# Altium schematic symbol library STM32G0.SCHLIB: 18 symbols
Pins are listed as number, name and electrical type; pins without a type are passive.

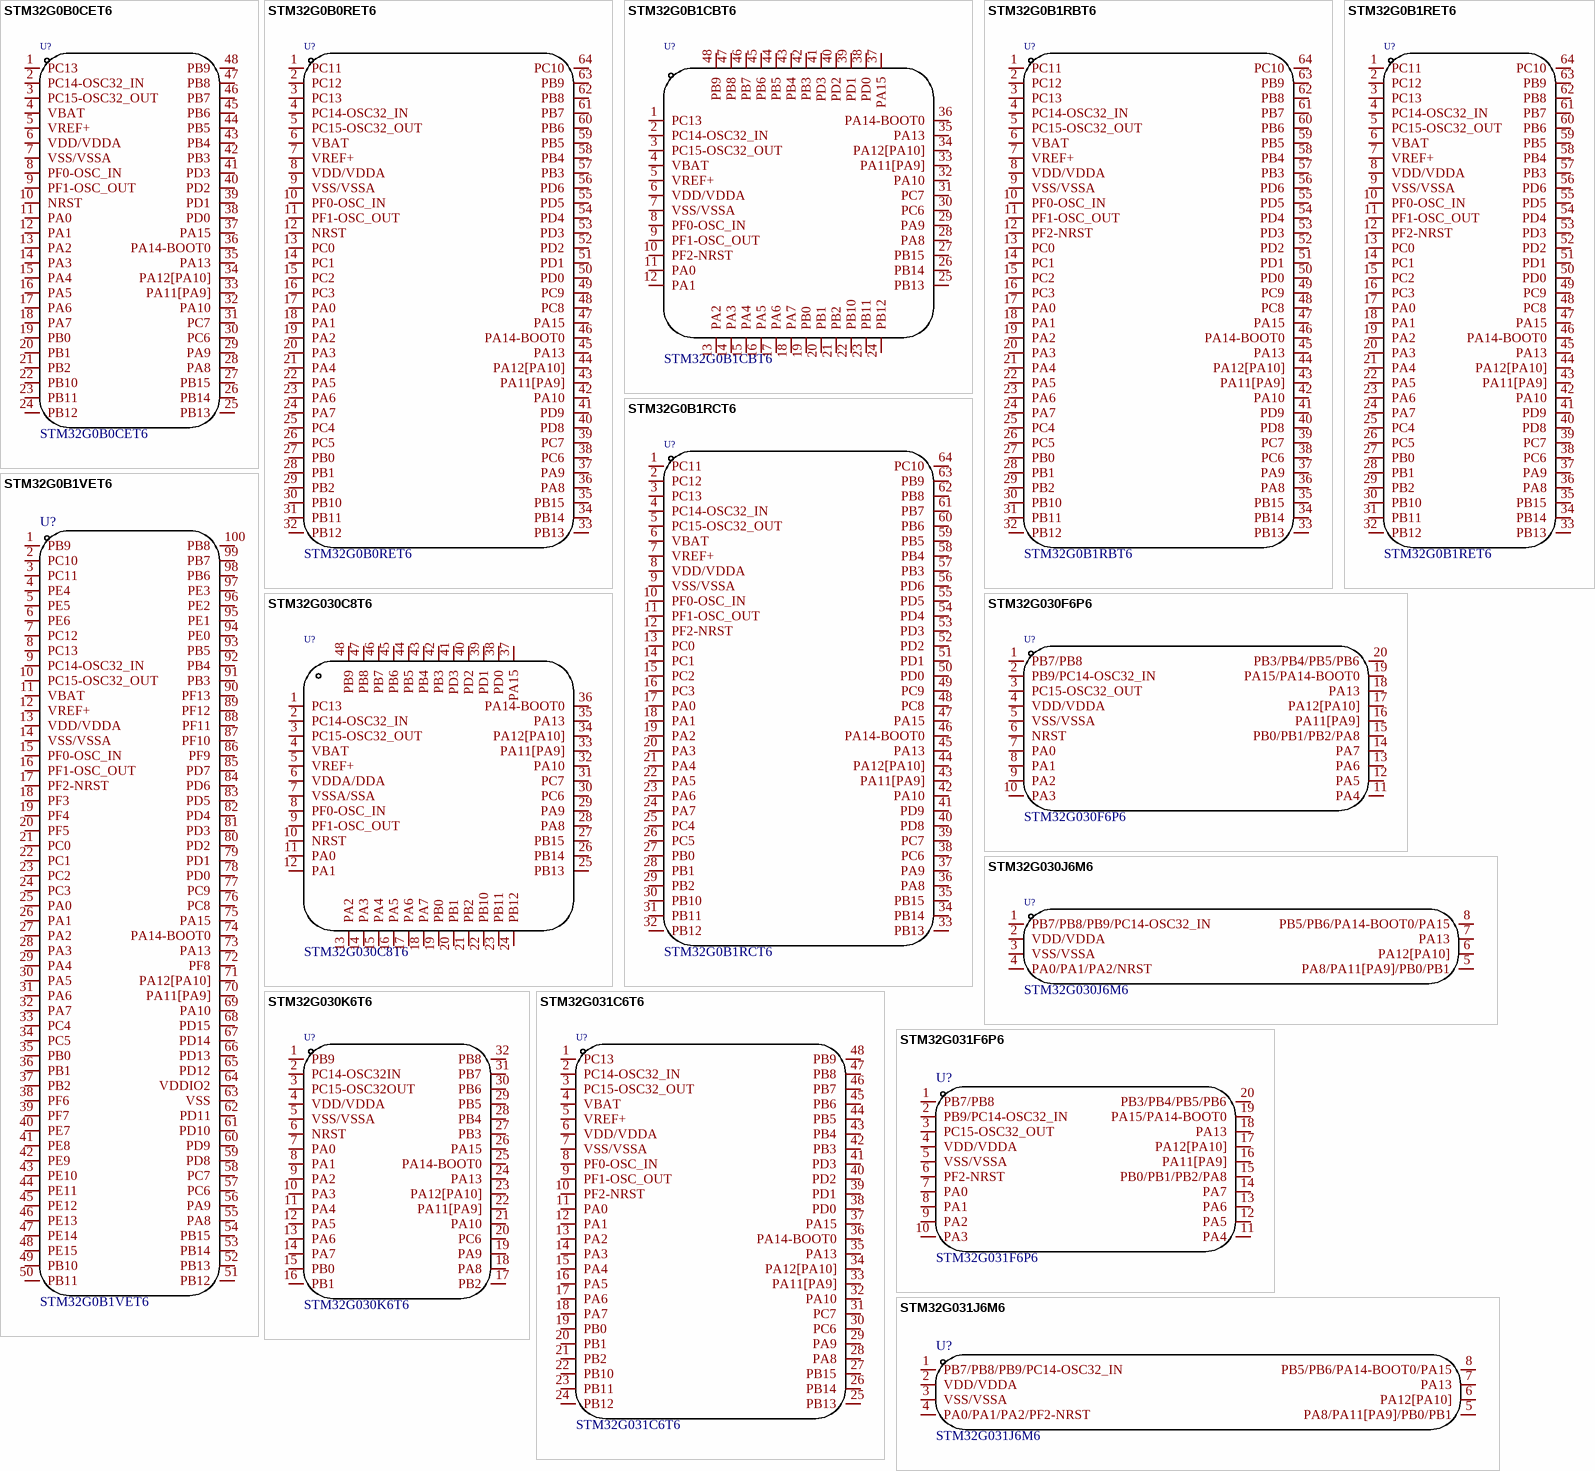
[diagram p0: symbols STM32G0B0CET6 to STM32G031J6M6]

## STM32G0B0CET6
designator U?
CPU Core:ARM-MSeries CPU Maximum Speed:64MHz Operating Voltage Range:2V~3.6V Operating Voltage Range:2V~3.6V Program Storage Size:512KB GPIO Ports Number:43 ADC (Bit):12bit Universal Serial Bus:有 Watchdog:有 Infrared Data Association:有 Low-Voltage Detect:有; Manufacturer: ST(意法半导体); Add into BOM: yes; CPU Maximum Speed: 64MHz; Program Storage Size: 512KB; GPIO Ports Number: 43; ADC (Bit): 12bit; Universal Serial Bus: 有; Symbol: STM32G0B0CET6; Device: STM32G0B0CET6; LCSC Part Name: STM32G0B0CET6; Supplier Part: C2826978; Manufacturer Part: STM32G0B0CET6; Supplier Footprint: LQFP-48(7x7); JLCPCB Part Class: Extended Part; Datasheet: https://atta.szlcsc.com/upload/public/pdf/source/20210707/C2826978_AA9CEF82AF6B521A912A336EFDF6C4C8.pdf; Supplier: LCSC; Convert to PCB: yes; CPU Core: ARM-MSeries; Operating Voltage Range: 2V~3.6V; Watchdog: 有; Infrared Data Association: 有; Low-Voltage Detect: 有; Direct Memory Access: 有; Operating Temperature Range: -40℃~+85℃; Name: STM32G0B0CET6
footprint LQFP-48_L7.0-W7.0-P0.50-LS9.0-BL
3D model LQFP-48_L7.0-W7.0-H1.4-LS9.0-P0.50
pins: 1 PC13, 2 PC14-OSC32_IN, 3 PC15-OSC32_OUT, 4 VBAT, 5 VREF+, 6 VDD/VDDA, 7 VSS/VSSA, 8 PF0-OSC_IN, 9 PF1-OSC_OUT, 10 NRST, 11 PA0, 12 PA1, 13 PA2, 14 PA3, 15 PA4, 16 PA5, 17 PA6, 18 PA7, 19 PB0, 20 PB1, 21 PB2, 22 PB10, 23 PB11, 24 PB12, 25 PB13, 26 PB14, 27 PB15, 28 PA8, 29 PA9, 30 PC6, 31 PC7, 32 PA10, 33 PA11[PA9], 34 PA12[PA10], 35 PA13, 36 PA14-BOOT0, 37 PA15, 38 PD0, 39 PD1, 40 PD2, 41 PD3, 42 PB3, 43 PB4, 44 PB5, 45 PB6, 46 PB7, 47 PB8, 48 PB9

## STM32G0B0RET6
designator U?
CPU Core:ARM-MSeries CPU Maximum Speed:64MHz Operating Voltage Range:2V~3.6V Operating Voltage Range:2V~3.6V Program Storage Size:512KB GPIO Ports Number:59 ADC (Bit):12bit Universal Serial Bus:有 Watchdog:有 Infrared Data Association:有 Low-Voltage Detect:有; Manufacturer: ST(意法半导体); Add into BOM: yes; CPU Maximum Speed: 64MHz; Program Storage Size: 512KB; GPIO Ports Number: 59; ADC (Bit): 12bit; Universal Serial Bus: 有; Name: STM32G0B0RET6; Symbol: STM32G0B0RET6; Device: STM32G0B0RET6; LCSC Part Name: STM32G0B0RET6; Supplier Part: C3230954; Manufacturer Part: STM32G0B0RET6; Supplier Footprint: LQFP-64(10x10); JLCPCB Part Class: Extended Part; Datasheet: https://atta.szlcsc.com/upload/public/pdf/source/20221107/A61E058B5B08CCB3DBE2C9E58729ACAF.pdf; Supplier: LCSC; Convert to PCB: yes; CPU Core: ARM-MSeries; Operating Voltage Range: 2V~3.6V; Watchdog: 有; Infrared Data Association: 有; Low-Voltage Detect: 有; Direct Memory Access: 有; Operating Temperature Range: -40℃~+85℃
footprint LQFP-64_L10.0-W10.0-P0.50-LS12.0-BL
3D model LQFP-64_L10.0-W10.0-H1.4-LS12.0-P0.50
pins: 1 PC11, 2 PC12, 3 PC13, 4 PC14-OSC32_IN, 5 PC15-OSC32_OUT, 6 VBAT, 7 VREF+, 8 VDD/VDDA, 9 VSS/VSSA, 10 PF0-OSC_IN, 11 PF1-OSC_OUT, 12 NRST, 13 PC0, 14 PC1, 15 PC2, 16 PC3, 17 PA0, 18 PA1, 19 PA2, 20 PA3, 21 PA4, 22 PA5, 23 PA6, 24 PA7, 25 PC4, 26 PC5, 27 PB0, 28 PB1, 29 PB2, 30 PB10, 31 PB11, 32 PB12, 33 PB13, 34 PB14, 35 PB15, 36 PA8, 37 PA9, 38 PC6, 39 PC7, 40 PD8, 41 PD9, 42 PA10, 43 PA11[PA9], 44 PA12[PA10], 45 PA13, 46 PA14-BOOT0, 47 PA15, 48 PC8, 49 PC9, 50 PD0, 51 PD1, 52 PD2, 53 PD3, 54 PD4, 55 PD5, 56 PD6, 57 PB3, 58 PB4, 59 PB5, 60 PB6, 61 PB7, 62 PB8, 63 PB9, 64 PC10

## STM32G0B1CBT6
designator U?
CPU Core:ARM-MSeries CPU Maximum Speed:- Program Storage Size:- Program Memory Type:- GPIO Ports Number:- Operating Voltage Range:- Operating Voltage Range:- RAM Size:- EEPROM:- ADC (Bit):- DAC (Bit):- PWM (Bit):- Universal Serial Bus:- Internal Comparato; Manufacturer: ST(意法半导体); Add into BOM: yes; Name: STM32G0B1CBT6; Symbol: STM32G0B1CBT6; Device: STM32G0B1CBT6; LCSC Part Name: STM32G0B1CBT6; Supplier Part: C2847904; Manufacturer Part: STM32G0B1CBT6; Supplier Footprint: LQFP-48(7x7); JLCPCB Part Class: Extended Part; Datasheet: https://atta.szlcsc.com/upload/public/pdf/source/20210707/C2829307_30DFBC3FA791244241E64BDE5F705BBC.pdf; Supplier: LCSC; Convert to PCB: yes; CPU Core: ARM-MSeries; CPU Maximum Speed: -; Program Storage Size: -; Program Memory Type: -; GPIO Ports Number: -; Operating Voltage Range: -; RAM Size: -; EEPROM: -; ADC (Bit): -; DAC (Bit): -; PWM (Bit): -; Universal Serial Bus: -; Internal Comparator: -; communication protocol: -; Watchdog: -; Real-Time Clock: -; Infrared Data Association: -; Low-Voltage Detect: -; CCP Capture/Compare: -; Secure Digital Input and Output: -; Direct Memory Access: -; Internal Oscillator: -
footprint LQFP-48_L7.0-W7.0-P0.50-LS9.0-BL
3D model LQFP-48_L7.0-W7.0-H1.4-LS9.0-P0.50
pins: 1 PC13, 2 PC14-OSC32_IN, 3 PC15-OSC32_OUT, 4 VBAT, 5 VREF+, 6 VDD/VDDA, 7 VSS/VSSA, 8 PF0-OSC_IN, 9 PF1-OSC_OUT, 10 PF2-NRST, 11 PA0, 12 PA1, 13 PA2, 14 PA3, 15 PA4, 16 PA5, 17 PA6, 18 PA7, 19 PB0, 20 PB1, 21 PB2, 22 PB10, 23 PB11, 24 PB12, 25 PB13, 26 PB14, 27 PB15, 28 PA8, 29 PA9, 30 PC6, 31 PC7, 32 PA10, 33 PA11[PA9], 34 PA12[PA10], 35 PA13, 36 PA14-BOOT0, 37 PA15, 38 PD0, 39 PD1, 40 PD2, 41 PD3, 42 PB3, 43 PB4, 44 PB5, 45 PB6, 46 PB7, 47 PB8, 48 PB9

## STM32G0B1RBT6
designator U?
Manufacturer: ST(意法半导体); Add into BOM: yes; Name: STM32G0B1RBT6; Symbol: STM32G0B1RBT6; Device: STM32G0B1RBT6; LCSC Part Name: STM32G0B1RBT6; Supplier Part: C5143679; Manufacturer Part: STM32G0B1RBT6; Supplier Footprint: LQFP-64(10x10); JLCPCB Part Class: Extended Part; Datasheet: https://atta.szlcsc.com/upload/public/pdf/source/20220824/5AEF072D9605B2DA7E37B612C22A2EC2.pdf; Supplier: LCSC; Convert to PCB: yes
footprint LQFP-64_L10.0-W10.0-P0.50-LS12.0-BL
3D model LQFP-64_L10.0-W10.0-H1.4-LS12.0-P0.50
pins: 1 PC11, 2 PC12, 3 PC13, 4 PC14-OSC32_IN, 5 PC15-OSC32_OUT, 6 VBAT, 7 VREF+, 8 VDD/VDDA, 9 VSS/VSSA, 10 PF0-OSC_IN, 11 PF1-OSC_OUT, 12 PF2-NRST, 13 PC0, 14 PC1, 15 PC2, 16 PC3, 17 PA0, 18 PA1, 19 PA2, 20 PA3, 21 PA4, 22 PA5, 23 PA6, 24 PA7, 25 PC4, 26 PC5, 27 PB0, 28 PB1, 29 PB2, 30 PB10, 31 PB11, 32 PB12, 33 PB13, 34 PB14, 35 PB15, 36 PA8, 37 PA9, 38 PC6, 39 PC7, 40 PD8, 41 PD9, 42 PA10, 43 PA11[PA9], 44 PA12[PA10], 45 PA13, 46 PA14-BOOT0, 47 PA15, 48 PC8, 49 PC9, 50 PD0, 51 PD1, 52 PD2, 53 PD3, 54 PD4, 55 PD5, 56 PD6, 57 PB3, 58 PB4, 59 PB5, 60 PB6, 61 PB7, 62 PB8, 63 PB9, 64 PC10

## STM32G0B1RCT6
designator U?
Manufacturer: ST(意法半导体); Add into BOM: yes; Name: STM32G0B1RCT6; Symbol: STM32G0B1RCT6; Device: STM32G0B1RCT6; LCSC Part Name: STM32G0B1RCT6; Supplier Part: C3034735; Manufacturer Part: STM32G0B1RCT6; Supplier Footprint: LQFP-64(10x10); JLCPCB Part Class: Extended Part; Datasheet: https://atta.szlcsc.com/upload/public/pdf/source/20220610/AE51C760F8E597F032654332049C8E3A.pdf; Supplier: LCSC; Convert to PCB: yes
footprint LQFP-64_L10.0-W10.0-P0.50-LS12.0-BL
3D model LQFP-64_L10.0-W10.0-H1.4-LS12.0-P0.50
pins: 1 PC11, 2 PC12, 3 PC13, 4 PC14-OSC32_IN, 5 PC15-OSC32_OUT, 6 VBAT, 7 VREF+, 8 VDD/VDDA, 9 VSS/VSSA, 10 PF0-OSC_IN, 11 PF1-OSC_OUT, 12 PF2-NRST, 13 PC0, 14 PC1, 15 PC2, 16 PC3, 17 PA0, 18 PA1, 19 PA2, 20 PA3, 21 PA4, 22 PA5, 23 PA6, 24 PA7, 25 PC4, 26 PC5, 27 PB0, 28 PB1, 29 PB2, 30 PB10, 31 PB11, 32 PB12, 33 PB13, 34 PB14, 35 PB15, 36 PA8, 37 PA9, 38 PC6, 39 PC7, 40 PD8, 41 PD9, 42 PA10, 43 PA11[PA9], 44 PA12[PA10], 45 PA13, 46 PA14-BOOT0, 47 PA15, 48 PC8, 49 PC9, 50 PD0, 51 PD1, 52 PD2, 53 PD3, 54 PD4, 55 PD5, 56 PD6, 57 PB3, 58 PB4, 59 PB5, 60 PB6, 61 PB7, 62 PB8, 63 PB9, 64 PC10

## STM32G0B1RET6
designator U?
Manufacturer: ST(意法半导体); Add into BOM: yes; Name: STM32G0B1RET6; Symbol: STM32G0B1RET6; Device: STM32G0B1RET6; LCSC Part Name: STM32G0B1RET6; Supplier Part: C2829307; Manufacturer Part: STM32G0B1RET6; Supplier Footprint: LQFP-64(10x10); JLCPCB Part Class: Extended Part; Datasheet: https://atta.szlcsc.com/upload/public/pdf/source/20210707/C2829307_30DFBC3FA791244241E64BDE5F705BBC.pdf; Supplier: LCSC; Convert to PCB: yes
footprint LQFP-64_L10.0-W10.0-P0.50-LS12.0-BL
3D model LQFP-64_L10.0-W10.0-H1.4-LS12.0-P0.50
pins: 1 PC11, 2 PC12, 3 PC13, 4 PC14-OSC32_IN, 5 PC15-OSC32_OUT, 6 VBAT, 7 VREF+, 8 VDD/VDDA, 9 VSS/VSSA, 10 PF0-OSC_IN, 11 PF1-OSC_OUT, 12 PF2-NRST, 13 PC0, 14 PC1, 15 PC2, 16 PC3, 17 PA0, 18 PA1, 19 PA2, 20 PA3, 21 PA4, 22 PA5, 23 PA6, 24 PA7, 25 PC4, 26 PC5, 27 PB0, 28 PB1, 29 PB2, 30 PB10, 31 PB11, 32 PB12, 33 PB13, 34 PB14, 35 PB15, 36 PA8, 37 PA9, 38 PC6, 39 PC7, 40 PD8, 41 PD9, 42 PA10, 43 PA11[PA9], 44 PA12[PA10], 45 PA13, 46 PA14-BOOT0, 47 PA15, 48 PC8, 49 PC9, 50 PD0, 51 PD1, 52 PD2, 53 PD3, 54 PD4, 55 PD5, 56 PD6, 57 PB3, 58 PB4, 59 PB5, 60 PB6, 61 PB7, 62 PB8, 63 PB9, 64 PC10

## STM32G0B1VET6
designator U?
CPU Core:ARM-MSeries CPU Maximum Speed:64MHz Operating Voltage Range:1.7V~3.6V Operating Voltage Range:1.7V~3.6V Program Storage Size:512KB GPIO Ports Number:94 ADC (Bit):12bit DAC (Bit):12bit Watchdog:有 Low-Voltage Detect:有 Direct Memory Access:有 Operati; Manufacturer: ST(意法半导体); Add into BOM: yes; CPU Maximum Speed: 64MHz; Program Storage Size: 512KB; GPIO Ports Number: 94; ADC (Bit): 12bit; Watchdog: 有; Name: STM32G0B1VET6; Symbol: STM32G0B1VET6; Device: STM32G0B1VET6; LCSC Part Name: ARM-M系列 64MHz; Supplier Part: C2829192; Manufacturer Part: STM32G0B1VET6; Supplier Footprint: LQFP-100(14x14); JLCPCB Part Class: Extended Part; Datasheet: https://atta.szlcsc.com/upload/public/pdf/source/20220803/4EF33D9BD61B6282E4BF5A60724D5CD0.pdf; Supplier: LCSC; Convert to PCB: yes; CPU Core: ARM-MSeries; Operating Voltage Range: 1.7V~3.6V; DAC (Bit): 12bit; Low-Voltage Detect: 有; Direct Memory Access: 有; Operating Temperature Range: -40℃~+85℃
footprint LQFP-100_L14.0-W14.0-P0.50-LS16.0-BL
3D model LQFP-100_L14.0-W14.0-H1.4-LS16.0-P0.50
pins: 1 PB9, 2 PC10, 3 PC11, 4 PE4, 5 PE5, 6 PE6, 7 PC12, 8 PC13, 9 PC14-OSC32_IN, 10 PC15-OSC32_OUT, 11 VBAT, 12 VREF+, 13 VDD/VDDA, 14 VSS/VSSA, 15 PF0-OSC_IN, 16 PF1-OSC_OUT, 17 PF2-NRST, 18 PF3, 19 PF4, 20 PF5, 21 PC0, 22 PC1, 23 PC2, 24 PC3, 25 PA0, 26 PA1, 27 PA2, 28 PA3, 29 PA4, 30 PA5, 31 PA6, 32 PA7, 33 PC4, 34 PC5, 35 PB0, 36 PB1, 37 PB2, 38 PF6, 39 PF7, 40 PE7, 41 PE8, 42 PE9, 43 PE10, 44 PE11, 45 PE12, 46 PE13, 47 PE14, 48 PE15, 49 PB10, 50 PB11, 51 PB12, 52 PB13, 53 PB14, 54 PB15, 55 PA8, 56 PA9, 57 PC6, 58 PC7, 59 PD8, 60 PD9, 61 PD10, 62 PD11, 63 VSS, 64 VDDIO2, 65 PD12, 66 PD13, 67 PD14, 68 PD15, 69 PA10, 70 PA11[PA9], 71 PA12[PA10], 72 PF8, 73 PA13, 74 PA14-BOOT0, 75 PA15, 76 PC8, 77 PC9, 78 PD0, 79 PD1, 80 PD2, 81 PD3, 82 PD4, 83 PD5, 84 PD6, 85 PD7, 86 PF9, 87 PF10, 88 PF11, 89 PF12, 90 PF13, 91 PB3, 92 PB4, 93 PB5, 94 PE0, 95 PE1, 96 PE2, 97 PE3, 98 PB6, 99 PB7, 100 PB8

## STM32G030C8T6
designator U?
CPU Core:ARM Cortex-M0 CPU Maximum Speed:64MHz Operating Voltage Range:2V~3.6V Operating Voltage Range:2V~3.6V Program Storage Size:64KB Program Memory Type:FLASH RAM Size:8KB EEPROM:- GPIO Ports Number:44 ADC (Bit):12bit DAC (Bit):- PWM (Bit):- Universal; Manufacturer: ST(意法半导体); Add into BOM: yes; CPU Maximum Speed: 64MHz; Program Storage Size: 64KB; Program Memory Type: FLASH; RAM Size: 8KB; GPIO Ports Number: 44; ADC (Bit): 12bit; Peripheral/Function: DMA；PWM; Internal Oscillator: 有; Name: STM32G030C8T6; Symbol: STM32G030C8T6; Device: STM32G030C8T6; LCSC Part Name: STM32G030C8T6; Supplier Part: C529329; Manufacturer Part: STM32G030C8T6; Supplier Footprint: LQFP-48(7x7); JLCPCB Part Class: Extended Part; Datasheet: https://atta.szlcsc.com/upload/public/pdf/source/20200511/C529329_A1CB615556C746C4EA827FCAD1461480.pdf; Supplier: LCSC; Convert to PCB: yes; CPU Core: ARM Cortex-M0; Operating Voltage Range: 2V~3.6V; EEPROM: -; DAC (Bit): -; PWM (Bit): -; Universal Serial Bus: -; Internal Comparator: -; communication protocol: -; Watchdog: -; Real-Time Clock: -; Infrared Data Association: -; Low-Voltage Detect: -; CCP Capture/Compare: -; Secure Digital Input and Output: -; Direct Memory Access: -; Operating Temperature Range: -40℃~+85℃
footprint LQFP-48_L7.0-W7.0-P0.50-LS9.0-BL
3D model LQFP-48_L7.0-W7.0-H1.4-LS9.0-P0.50
pins: 1 PC13, 2 PC14-OSC32_IN, 3 PC15-OSC32_OUT, 4 VBAT, 5 VREF+, 6 VDDA/DDA, 7 VSSA/SSA, 8 PF0-OSC_IN, 9 PF1-OSC_OUT, 10 NRST, 11 PA0, 12 PA1, 13 PA2, 14 PA3, 15 PA4, 16 PA5, 17 PA6, 18 PA7, 19 PB0, 20 PB1, 21 PB2, 22 PB10, 23 PB11, 24 PB12, 25 PB13, 26 PB14, 27 PB15, 28 PA8, 29 PA9, 30 PC6, 31 PC7, 32 PA10, 33 PA11[PA9], 34 PA12[PA10], 35 PA13, 36 PA14-BOOT0, 37 PA15, 38 PD0, 39 PD1, 40 PD2, 41 PD3, 42 PB3, 43 PB4, 44 PB5, 45 PB6, 46 PB7, 47 PB8, 48 PB9

## STM32G030F6P6
designator U?
CPU Core:ARM Cortex-M0 CPU Maximum Speed:64MHz Operating Voltage Range:2V~3.6V Operating Voltage Range:2V~3.6V Program Storage Size:32KB Program Memory Type:FLASH RAM Size:8KB EEPROM:- GPIO Ports Number:18 ADC (Bit):12bit DAC (Bit):- PWM (Bit):- Universal; Manufacturer: ST(意法半导体); Add into BOM: yes; CPU Maximum Speed: 64MHz; Program Storage Size: 32KB; Program Memory Type: FLASH; RAM Size: 8KB; GPIO Ports Number: 18; ADC (Bit): 12bit; Peripheral/Function: DMA；WDT；WDT; Internal Oscillator: 有; Symbol: STM32G030F6P6; Device: STM32G030F6P6; LCSC Part Name: STM32G030F6P6; Supplier Part: C724040; Manufacturer Part: STM32G030F6P6; Supplier Footprint: TSSOP-20; JLCPCB Part Class: Extended Part; Datasheet: https://atta.szlcsc.com/upload/public/pdf/source/20200511/C529329_A1CB615556C746C4EA827FCAD1461480.pdf; Supplier: LCSC; Convert to PCB: yes; CPU Core: ARM Cortex-M0; Operating Voltage Range: 2V~3.6V; EEPROM: -; DAC (Bit): -; PWM (Bit): -; Universal Serial Bus: -; Internal Comparator: -; communication protocol: -; Watchdog: -; Real-Time Clock: -; Infrared Data Association: -; Low-Voltage Detect: -; CCP Capture/Compare: -; Secure Digital Input and Output: -; Direct Memory Access: -; Operating Temperature Range: -40℃~+85℃; Name: STM32G030F6P6
footprint TSSOP-20_L6.5-W4.4-P0.65-LS6.4-BL
3D model TSSOP-20_L6.5-W4.4-H1.0-LS6.4-P0.65
pins: 1 PB7/PB8, 2 PB9/PC14-OSC32_IN, 3 PC15-OSC32_OUT, 4 VDD/VDDA, 5 VSS/VSSA, 6 NRST, 7 PA0, 8 PA1, 9 PA2, 10 PA3, 11 PA4, 12 PA5, 13 PA6, 14 PA7, 15 PB0/PB1/PB2/PA8, 16 PA11[PA9], 17 PA12[PA10], 18 PA13, 19 PA15/PA14-BOOT0, 20 PB3/PB4/PB5/PB6

## STM32G030J6M6
designator U?
Manufacturer: ST(意法半导体); Add into BOM: yes; Name: STM32G030J6M6; Symbol: STM32G030J6M6; Device: STM32G030J6M6; LCSC Part Name: STM32G030J6M6; Supplier Part: C724041; Manufacturer Part: STM32G030J6M6; Supplier Footprint: SOP-8; JLCPCB Part Class: Extended Part; Datasheet: https://atta.szlcsc.com/upload/public/pdf/source/20200511/C529329_A1CB615556C746C4EA827FCAD1461480.pdf; Supplier: LCSC; Convert to PCB: yes
footprint SOP-8_L5.0-W4.0-P1.27-LS6.0-BL
3D model SOP-8_L5.0-W4.0-H1.8-LS6.2-P1.27
pins: 1 PB7/PB8/PB9/PC14-OSC32_IN, 2 VDD/VDDA, 3 VSS/VSSA, 4 PA0/PA1/PA2/NRST, 5 PA8/PA11[PA9]/PB0/PB1, 6 PA12[PA10], 7 PA13, 8 PB5/PB6/PA14-BOOT0/PA15

## STM32G030K6T6
designator U?
CPU Core:ARM Cortex-M0 CPU Maximum Speed:64MHz Operating Voltage Range:2V~3.6V Operating Voltage Range:2V~3.6V Program Storage Size:32KB Program Memory Type:FLASH RAM Size:8KB EEPROM:- GPIO Ports Number:30 ADC (Bit):12bit DAC (Bit):- PWM (Bit):- Universal; Manufacturer: ST(意法半导体); Add into BOM: yes; CPU Maximum Speed: 64MHz; Program Storage Size: 32KB; Program Memory Type: FLASH; RAM Size: 8KB; GPIO Ports Number: 30; ADC (Bit): 12bit; Peripheral/Function: DMA；PWM; Internal Oscillator: 有; Name: STM32G030K6T6; Symbol: STM32G030K6T6; Device: STM32G030K6T6; LCSC Part Name: STM32G030K6T6; Supplier Part: C529331; Manufacturer Part: STM32G030K6T6; Supplier Footprint: LQFP-32(7x7); JLCPCB Part Class: Extended Part; Datasheet: https://atta.szlcsc.com/upload/public/pdf/source/20200511/C529329_A1CB615556C746C4EA827FCAD1461480.pdf; Supplier: LCSC; Convert to PCB: yes; CPU Core: ARM Cortex-M0; Operating Voltage Range: 2V~3.6V; EEPROM: -; DAC (Bit): -; PWM (Bit): -; Universal Serial Bus: -; Internal Comparator: -; communication protocol: -; Watchdog: -; Real-Time Clock: -; Infrared Data Association: -; Low-Voltage Detect: -; CCP Capture/Compare: -; Secure Digital Input and Output: -; Direct Memory Access: -; Operating Temperature Range: -40℃~+85℃
footprint LQFP-32_L7.0-W7.0-P0.80-LS9.0-BL
3D model LQFP-32_L7.0-W7.0-H1.4-LS9.0-P0.80
pins: 1 PB9, 2 PC14-OSC32IN, 3 PC15-OSC32OUT, 4 VDD/VDDA, 5 VSS/VSSA, 6 NRST, 7 PA0, 8 PA1, 9 PA2, 10 PA3, 11 PA4, 12 PA5, 13 PA6, 14 PA7, 15 PB0, 16 PB1, 17 PB2, 18 PA8, 19 PA9, 20 PC6, 21 PA10, 22 PA11[PA9], 23 PA12[PA10], 24 PA13, 25 PA14-BOOT0, 26 PA15, 27 PB3, 28 PB4, 29 PB5, 30 PB6, 31 PB7, 32 PB8

## STM32G031C6T6
designator U?
CPU Core:ARM Cortex-M0 CPU Maximum Speed:64MHz Operating Voltage Range:1.7V~3.6V Operating Voltage Range:1.7V~3.6V Program Storage Size:32KB Program Memory Type:FLASH RAM Size:8KB EEPROM:- GPIO Ports Number:44 ADC (Bit):12bit DAC (Bit):- PWM (Bit):- Unive; Manufacturer: ST(意法半导体); Add into BOM: yes; CPU Maximum Speed: 64MHz; Program Storage Size: 32KB; Program Memory Type: FLASH; RAM Size: 8KB; GPIO Ports Number: 44; ADC (Bit): 12bit; Peripheral/Function: PWM；PWM; Internal Oscillator: 有; Name: STM32G031C6T6; Symbol: STM32G031C6T6; Device: STM32G031C6T6; LCSC Part Name: STM32G031C6T6; Supplier Part: C432204; Manufacturer Part: STM32G031C6T6; Supplier Footprint: LQFP-48(7x7); JLCPCB Part Class: Extended Part; Datasheet: https://atta.szlcsc.com/upload/public/pdf/source/20190927/C432211_623EEFA1D407096BEEBF7364175DF17E.pdf; Supplier: LCSC; Convert to PCB: yes; CPU Core: ARM Cortex-M0; Operating Voltage Range: 1.7V~3.6V; EEPROM: -; DAC (Bit): -; PWM (Bit): -; Universal Serial Bus: -; Internal Comparator: -; communication protocol: -; Watchdog: -; Real-Time Clock: -; Infrared Data Association: -; Low-Voltage Detect: -; CCP Capture/Compare: -; Secure Digital Input and Output: -; Direct Memory Access: -; Operating Temperature Range: -40℃~+85℃
footprint LQFP-48_L7.0-W7.0-P0.50-LS9.0-BL
3D model LQFP-48_L7.0-W7.0-H1.4-LS9.0-P0.50
pins: 1 PC13, 2 PC14-OSC32_IN, 3 PC15-OSC32_OUT, 4 VBAT, 5 VREF+, 6 VDD/VDDA, 7 VSS/VSSA, 8 PF0-OSC_IN, 9 PF1-OSC_OUT, 10 PF2-NRST, 11 PA0, 12 PA1, 13 PA2, 14 PA3, 15 PA4, 16 PA5, 17 PA6, 18 PA7, 19 PB0, 20 PB1, 21 PB2, 22 PB10, 23 PB11, 24 PB12, 25 PB13, 26 PB14, 27 PB15, 28 PA8, 29 PA9, 30 PC6, 31 PC7, 32 PA10, 33 PA11[PA9], 34 PA12[PA10], 35 PA13, 36 PA14-BOOT0, 37 PA15, 38 PD0, 39 PD1, 40 PD2, 41 PD3, 42 PB3, 43 PB4, 44 PB5, 45 PB6, 46 PB7, 47 PB8, 48 PB9

## STM32G031F6P6
designator U?
Manufacturer: ST(意法半导体); Add into BOM: yes; Name: STM32G031F6P6; Symbol: STM32G031F6P6; Device: STM32G031F6P6; LCSC Part Name: STM32G031F6P6; Supplier Part: C529333; Manufacturer Part: STM32G031F6P6; Supplier Footprint: TSSOP-20; JLCPCB Part Class: Extended Part; Datasheet: https://atta.szlcsc.com/upload/public/pdf/source/20200511/C529333_A70C01638623E46E4F2463F8AFDC75CD.pdf; Supplier: LCSC; Convert to PCB: yes
footprint TSSOP-20_L6.5-W4.4-P0.65-LS6.4-BL
3D model TSSOP-20_L6.5-W4.4-H1.0-LS6.4-P0.65
pins: 1 PB7/PB8, 2 PB9/PC14-OSC32_IN, 3 PC15-OSC32_OUT, 4 VDD/VDDA, 5 VSS/VSSA, 6 PF2-NRST, 7 PA0, 8 PA1, 9 PA2, 10 PA3, 11 PA4, 12 PA5, 13 PA6, 14 PA7, 15 PB0/PB1/PB2/PA8, 16 PA11[PA9], 17 PA12[PA10], 18 PA13, 19 PA15/PA14-BOOT0, 20 PB3/PB4/PB5/PB6

## STM32G031J6M6
designator U?
CPU Core:ARM Cortex-M0 Maximum Frequency:64MHz Supply Voltage Range:1.7V~3.6V Supply Voltage Range:1.7V~3.6V Internal Oscillator:有 Program FLASH Size:32K@x8bit RAM Size:8KB EEPROM/Data FLASH Size:- GPIO Ports Number:6 ADC (Units/Channels/bits):1@x8ch/12bi; Manufacturer: ST(意法半导体); Add into BOM: yes; Maximum Frequency: 64MHz; Internal Oscillator: 有; RAM Size: 8KB; GPIO Ports Number: 6; ADC (Units/Channels/bits): 1@x8ch/12bit; Peripherals / Functions / Protocol Stacks: PWM；WDT；PWM; Name: STM32G031J6M6; Symbol: STM32G031J6M6; Device: STM32G031J6M6; LCSC Part Name: ARM Cortex-M0 64MHz 闪存：32K@x8bit RAM：8KB; Supplier Part: C432201; Manufacturer Part: STM32G031J6M6; Supplier Footprint: SOIC-8; JLCPCB Part Class: Extended Part; Datasheet: https://atta.szlcsc.com/upload/public/pdf/source/20190927/C432201_14F5D6019072B922B263FC70F76B61BD.pdf; Supplier: LCSC; Convert to PCB: yes; CPU Core: ARM Cortex-M0; Supply Voltage Range: 1.7V~3.6V; Program FLASH Size: 32K@x8bit; EEPROM/Data FLASH Size: -; Operating Temperature Range: -40℃~+85℃
footprint SOIC-8_L4.9-W3.9-P1.27-LS6.0-BL
3D model SOIC-8_L4.9-W3.9-H1.7-LS6.0-P1.27
pins: 1 PB7/PB8/PB9/PC14-OSC32_IN, 2 VDD/VDDA, 3 VSS/VSSA, 4 PA0/PA1/PA2/PF2-NRST, 5 PA8/PA11[PA9]/PB0/PB1, 6 PA12[PA10], 7 PA13, 8 PB5/PB6/PA14-BOOT0/PA15

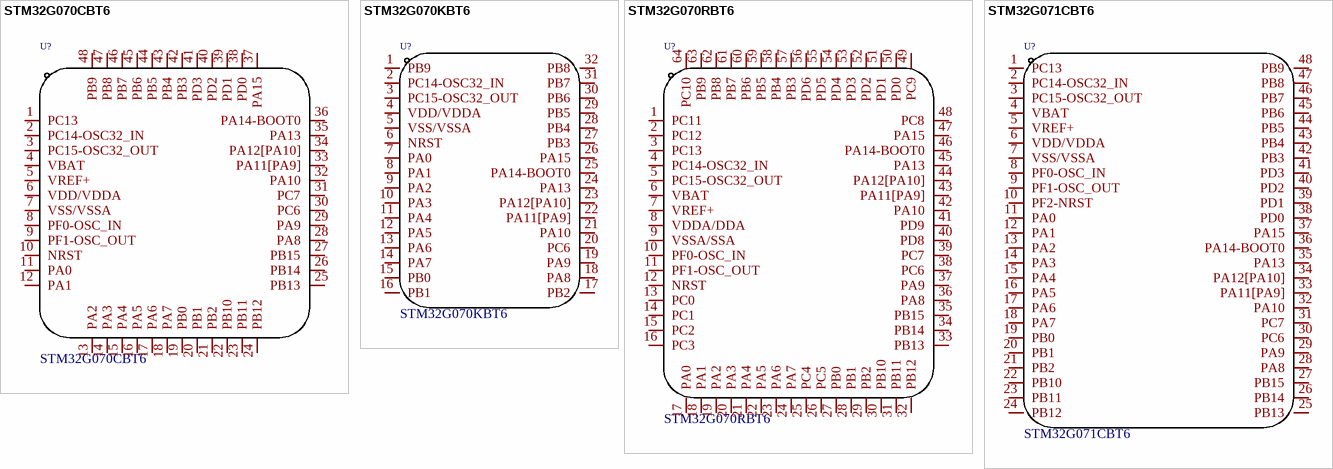
[diagram p1: symbols STM32G070CBT6 to STM32G071CBT6]

## STM32G070CBT6
designator U?
CPU Core:ARM-MSeries CPU Maximum Speed:64MHz Operating Voltage Range:- Operating Voltage Range:- Program Storage Size:128KB Program Memory Type:FLASH RAM Size:36KB EEPROM:- GPIO Ports Number:- ADC (Bit):- DAC (Bit):- PWM (Bit):- Universal Serial Bus:- Int; Manufacturer: ST(意法半导体); Add into BOM: yes; CPU Maximum Speed: 64MHz; Program Storage Size: 128KB; Program Memory Type: FLASH; RAM Size: 36KB; Name: STM32G070CBT6; Symbol: STM32G070CBT6; Device: STM32G070CBT6; LCSC Part Name: STM32G070CBT6; Supplier Part: C529338; Manufacturer Part: STM32G070CBT6; Supplier Footprint: LQFP-48(7x7); JLCPCB Part Class: Extended Part; Datasheet: https://atta.szlcsc.com/upload/public/pdf/source/20200511/C529338_48C8B1D333BC51E6E9668757AAD26A84.pdf; Supplier: LCSC; Convert to PCB: yes; CPU Core: ARM-MSeries; Operating Voltage Range: -; EEPROM: -; GPIO Ports Number: -; ADC (Bit): -; DAC (Bit): -; PWM (Bit): -; Universal Serial Bus: -; Internal Comparator: -; communication protocol: -; Watchdog: -; Real-Time Clock: -; Infrared Data Association: -; Low-Voltage Detect: -; CCP Capture/Compare: -; Secure Digital Input and Output: -; Direct Memory Access: -; Internal Oscillator: -
footprint LQFP-48_L7.0-W7.0-P0.50-LS9.0-BL
3D model LQFP-48_L7.0-W7.0-H1.4-LS9.0-P0.50
pins: 1 PC13, 2 PC14-OSC32_IN, 3 PC15-OSC32_OUT, 4 VBAT, 5 VREF+, 6 VDD/VDDA, 7 VSS/VSSA, 8 PF0-OSC_IN, 9 PF1-OSC_OUT, 10 NRST, 11 PA0, 12 PA1, 13 PA2, 14 PA3, 15 PA4, 16 PA5, 17 PA6, 18 PA7, 19 PB0, 20 PB1, 21 PB2, 22 PB10, 23 PB11, 24 PB12, 25 PB13, 26 PB14, 27 PB15, 28 PA8, 29 PA9, 30 PC6, 31 PC7, 32 PA10, 33 PA11[PA9], 34 PA12[PA10], 35 PA13, 36 PA14-BOOT0, 37 PA15, 38 PD0, 39 PD1, 40 PD2, 41 PD3, 42 PB3, 43 PB4, 44 PB5, 45 PB6, 46 PB7, 47 PB8, 48 PB9

## STM32G070KBT6
designator U?
CPU Core:ARM Cortex-M0 CPU Maximum Speed:64MHz Operating Voltage Range:2V~3.6V Operating Voltage Range:2V~3.6V Program Storage Size:128KB Program Memory Type:FLASH RAM Size:36KB EEPROM:- GPIO Ports Number:29 ADC (Bit):12bit DAC (Bit):- PWM (Bit):- Univers; Manufacturer: ST(意法半导体); Add into BOM: yes; CPU Maximum Speed: 64MHz; Program Storage Size: 128KB; Program Memory Type: FLASH; RAM Size: 36KB; GPIO Ports Number: 29; ADC (Bit): 12bit; Peripheral/Function: DMA；PWM; Internal Oscillator: 有; Name: STM32G070KBT6; Symbol: STM32G070KBT6; Device: STM32G070KBT6; LCSC Part Name: STM32G070KBT6; Supplier Part: C529339; Manufacturer Part: STM32G070KBT6; Supplier Footprint: LQFP-32(7x7); JLCPCB Part Class: Extended Part; Datasheet: https://atta.szlcsc.com/upload/public/pdf/source/20200511/C529338_48C8B1D333BC51E6E9668757AAD26A84.pdf; Supplier: LCSC; Convert to PCB: yes; CPU Core: ARM Cortex-M0; Operating Voltage Range: 2V~3.6V; EEPROM: -; DAC (Bit): -; PWM (Bit): -; Universal Serial Bus: -; Internal Comparator: -; communication protocol: -; Watchdog: -; Real-Time Clock: -; Infrared Data Association: -; Low-Voltage Detect: -; CCP Capture/Compare: -; Secure Digital Input and Output: -; Direct Memory Access: -; Operating Temperature Range: -40℃~+85℃
footprint LQFP-32_L7.0-W7.0-P0.80-LS9.0-BL
3D model LQFP-32_L7.0-W7.0-H1.4-LS9.0-P0.80
pins: 1 PB9, 2 PC14-OSC32_IN, 3 PC15-OSC32_OUT, 4 VDD/VDDA, 5 VSS/VSSA, 6 NRST, 7 PA0, 8 PA1, 9 PA2, 10 PA3, 11 PA4, 12 PA5, 13 PA6, 14 PA7, 15 PB0, 16 PB1, 17 PB2, 18 PA8, 19 PA9, 20 PC6, 21 PA10, 22 PA11[PA9], 23 PA12[PA10], 24 PA13, 25 PA14-BOOT0, 26 PA15, 27 PB3, 28 PB4, 29 PB5, 30 PB6, 31 PB7, 32 PB8

## STM32G070RBT6
designator U?
CPU Core:ARM Cortex-M0 CPU Maximum Speed:64MHz Operating Voltage Range:2V~3.6V Operating Voltage Range:2V~3.6V Program Storage Size:128KB Program Memory Type:FLASH RAM Size:36KB EEPROM:- GPIO Ports Number:59 ADC (Bit):12bit DAC (Bit):- PWM (Bit):- Univers; Manufacturer: ST(意法半导体); Add into BOM: yes; CPU Maximum Speed: 64MHz; Program Storage Size: 128KB; Program Memory Type: FLASH; RAM Size: 36KB; GPIO Ports Number: 59; ADC (Bit): 12bit; Peripheral/Function: DMA；PWM; Internal Oscillator: 有; Name: STM32G070RBT6; Symbol: STM32G070RBT6; Device: STM32G070RBT6; LCSC Part Name: STM32G070RBT6; Supplier Part: C529340; Manufacturer Part: STM32G070RBT6; Supplier Footprint: LQFP-64(10x10); JLCPCB Part Class: Extended Part; Datasheet: https://atta.szlcsc.com/upload/public/pdf/source/20200511/C529338_48C8B1D333BC51E6E9668757AAD26A84.pdf; Supplier: LCSC; Convert to PCB: yes; CPU Core: ARM Cortex-M0; Operating Voltage Range: 2V~3.6V; EEPROM: -; DAC (Bit): -; PWM (Bit): -; Universal Serial Bus: -; Internal Comparator: -; communication protocol: -; Watchdog: -; Real-Time Clock: -; Infrared Data Association: -; Low-Voltage Detect: -; CCP Capture/Compare: -; Secure Digital Input and Output: -; Direct Memory Access: -; Operating Temperature Range: -40℃~+85℃
footprint LQFP-64_L10.0-W10.0-P0.50-LS12.0-BL
3D model LQFP-64_L10.0-W10.0-H1.4-LS12.0-P0.50
pins: 1 PC11, 2 PC12, 3 PC13, 4 PC14-OSC32_IN, 5 PC15-OSC32_OUT, 6 VBAT, 7 VREF+, 8 VDDA/DDA, 9 VSSA/SSA, 10 PF0-OSC_IN, 11 PF1-OSC_OUT, 12 NRST, 13 PC0, 14 PC1, 15 PC2, 16 PC3, 17 PA0, 18 PA1, 19 PA2, 20 PA3, 21 PA4, 22 PA5, 23 PA6, 24 PA7, 25 PC4, 26 PC5, 27 PB0, 28 PB1, 29 PB2, 30 PB10, 31 PB11, 32 PB12, 33 PB13, 34 PB14, 35 PB15, 36 PA8, 37 PA9, 38 PC6, 39 PC7, 40 PD8, 41 PD9, 42 PA10, 43 PA11[PA9], 44 PA12[PA10], 45 PA13, 46 PA14-BOOT0, 47 PA15, 48 PC8, 49 PC9, 50 PD0, 51 PD1, 52 PD2, 53 PD3, 54 PD4, 55 PD5, 56 PD6, 57 PB3, 58 PB4, 59 PB5, 60 PB6, 61 PB7, 62 PB8, 63 PB9, 64 PC10

## STM32G071CBT6
designator U?
CPU Core:ARM Cortex-M0 CPU Maximum Speed:64MHz Operating Voltage Range:1.71V~3.6V Operating Voltage Range:1.71V~3.6V Program Storage Size:128KB Program Memory Type:FLASH RAM Size:36KB EEPROM:- GPIO Ports Number:44 ADC (Bit):12bit DAC (Bit):12bit PWM (Bit); Manufacturer: ST(意法半导体); Add into BOM: yes; CPU Maximum Speed: 64MHz; Program Storage Size: 128KB; Program Memory Type: FLASH; RAM Size: 36KB; GPIO Ports Number: 44; ADC (Bit): 12bit; Universal Serial Bus: 有; Peripheral/Function: PWM；PWM; Name: STM32G071CBT6; Symbol: STM32G071CBT6; Device: STM32G071CBT6; LCSC Part Name: STM32G071CBT6; Supplier Part: C432212; Manufacturer Part: STM32G071CBT6; Supplier Footprint: LQFP-48(7x7); JLCPCB Part Class: Extended Part; Datasheet: https://atta.szlcsc.com/upload/public/pdf/source/20190927/C432214_EFE98D9C445BBFB6580789273CF20703.pdf; Supplier: LCSC; Convert to PCB: yes; CPU Core: ARM Cortex-M0; Operating Voltage Range: 1.71V~3.6V; EEPROM: -; DAC (Bit): 12bit; PWM (Bit): -; Internal Comparator: -; communication protocol: -; Watchdog: -; Real-Time Clock: -; Infrared Data Association: -; Low-Voltage Detect: -; CCP Capture/Compare: -; Secure Digital Input and Output: 有; Direct Memory Access: -; Internal Oscillator: 有; Operating Temperature Range: -40℃~+85℃
footprint LQFP-48_L7.0-W7.0-P0.50-LS9.0-BL
3D model LQFP-48_L7.0-W7.0-H1.4-LS9.0-P0.50
pins: 1 PC13, 2 PC14-OSC32_IN, 3 PC15-OSC32_OUT, 4 VBAT, 5 VREF+, 6 VDD/VDDA, 7 VSS/VSSA, 8 PF0-OSC_IN, 9 PF1-OSC_OUT, 10 PF2-NRST, 11 PA0, 12 PA1, 13 PA2, 14 PA3, 15 PA4, 16 PA5, 17 PA6, 18 PA7, 19 PB0, 20 PB1, 21 PB2, 22 PB10, 23 PB11, 24 PB12, 25 PB13, 26 PB14, 27 PB15, 28 PA8, 29 PA9, 30 PC6, 31 PC7, 32 PA10, 33 PA11[PA9], 34 PA12[PA10], 35 PA13, 36 PA14-BOOT0, 37 PA15, 38 PD0, 39 PD1, 40 PD2, 41 PD3, 42 PB3, 43 PB4, 44 PB5, 45 PB6, 46 PB7, 47 PB8, 48 PB9